# Altium schematic symbol library R315.SchLib: 1 symbol
Pins are listed as number, name and electrical type; pins without a type are passive.

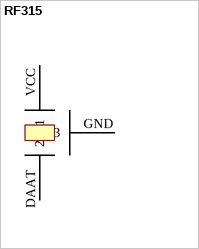
[diagram p0: symbol RF315]

## RF315
designator SAW?
pins: DAAT 2, GND 3, VCC 1